# Altium footprint library Switches.PcbLib: 1 footprints
Each footprint in its own frame and in the unit in brackets; x right, y up, seen from the top. Pads: shape width x height; smd on the part's side, far side on the other; paste and mask are expansions set on the pad; w line width, h text height; cw(c..) or ccw(c..) is an arc to the next point about the centre after c.
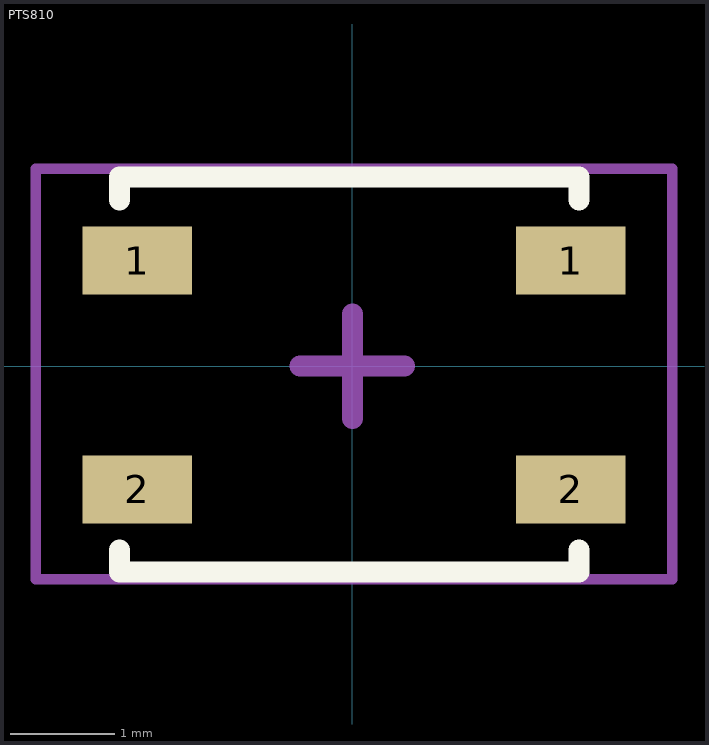
[diagram p0: the footprint, top view; thin cyan lines are the x and y axes]

## PTS810 [mm]
pads (4):
  rect 1.05x0.65 smd mask+0.15: 1(-2.06,1.01) 1(2.09,1.01) 2(-2.06,-1.18) 2(2.09,-1.18)
Top Overlay:
  lines w0.2: -2.23,-1.76 -2.23,-1.97 2.17,-1.97 2.17,-1.76 ; -2.23,1.59 -2.23,1.81 2.17,1.81 2.17,1.59
Mechanical 15:
  lines w0.1: -3.03,-2.04 3.06,-2.04 3.06,1.89 -3.03,1.89 -3.03,-2.04
  lines w0.2: -0.5,0 0.5,0 ; 0,-0.5 0,0.5
3D body: height 2.5, standoff 0, extent -2.13,-1.86 2.07,1.69